# Altium footprint library CAP_SMD.PcbLib: 2 footprints
Each footprint in its own frame and in the unit in brackets; x right, y up, seen from the top. Pads: shape width x height; smd on the part's side, far side on the other; paste and mask are expansions set on the pad; w line width, h text height; cw(c..) or ccw(c..) is an arc to the next point about the centre after c.
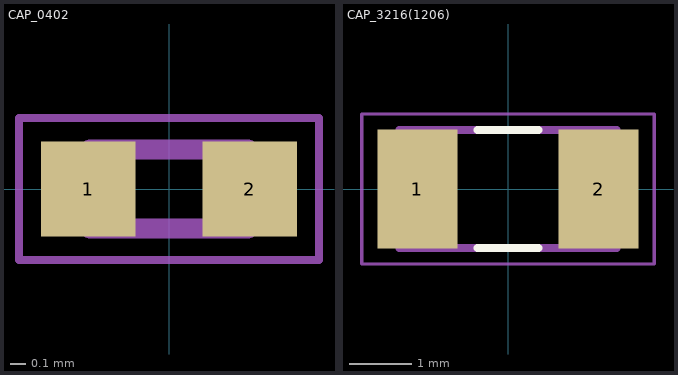
[diagram p0: the footprints below, top view; thin cyan lines are the x and y axes]

## CAP_0402 [mm]
pads (2):
  rect 0.6x0.6 smd: 1(-0.512,0) 2(0.512,0)
Mechanical 13:
  lines w0.127: -0.5,-0.25 0.5,-0.25 0.5,0.25 -0.5,0.25 -0.5,-0.25
Mechanical 15:
  lines w0.05: -0.95,-0.45 -0.95,0.45 0.95,0.45 0.95,-0.45 -0.95,-0.45
3D body "C1005X5R1H104M050BB.STEP": height 0.55, standoff 0, extent -0.5,-0.25 0.5,0.25

## CAP_3216(1206) [mm]
pads (2):
  rect 1.29x1.91 smd: 1(-1.46,0) 2(1.46,0)
Top Overlay:
  lines w0.127: -0.49,-0.95 0.49,-0.95 ; -0.49,0.95 0.49,0.95
Mechanical 13:
  lines w0.127: -1.75,-0.95 1.75,-0.95 1.75,0.95 -1.75,0.95 -1.75,-0.95
Mechanical 15:
  lines w0.05: -2.355,-1.205 2.355,-1.205 2.355,1.205 -2.355,1.205 -2.355,-1.205
3D body "step_temp.STEP": height 1.9, standoff 0, extent -1.6,-0.8 1.6,0.8